# Altium footprint library FSS010.PcbLib: 3 footprints
Each footprint in its own frame and in the unit in brackets; x right, y up, seen from the top. Pads: shape width x height; smd on the part's side, far side on the other; paste and mask are expansions set on the pad; w line width, h text height; cw(c..) or ccw(c..) is an arc to the next point about the centre after c.
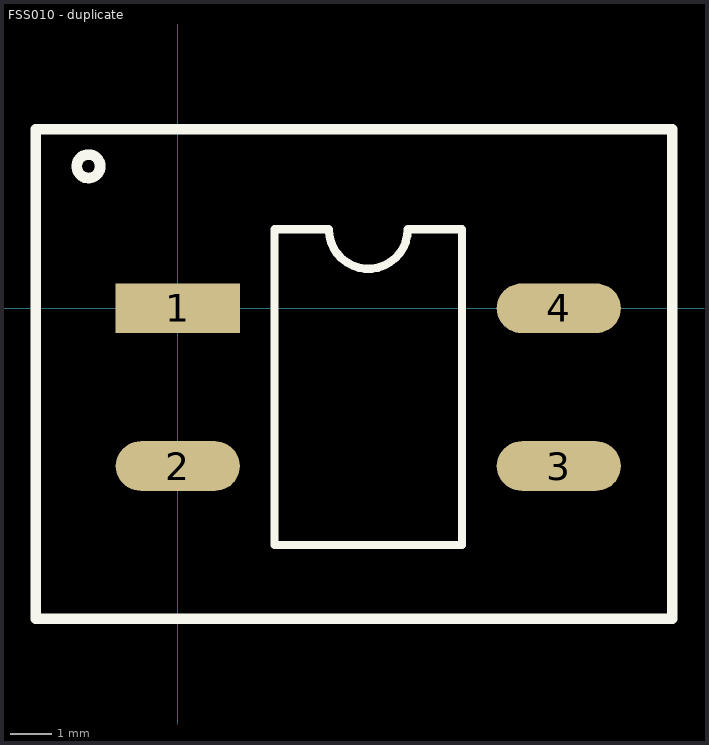
[diagram p0: the footprints below, top view; thin cyan lines are the x and y axes]

## FSS010 [mm]

## FSS010 - duplicate [mm]
pads (4):
  rect 3x1.2 smd: 1(0,0)
  oval 3x1.2 smd: 2(0,-3.81) 3(9.2,-3.81) 4(9.2,0)
Top Overlay:
  circle w0.254: c-2.159,3.429 r0.284
  lines w0.2: 2.335,-5.715 2.335,1.905 3.647,1.905 ccw(c4.6,1.905) 5.552,1.905 6.865,1.905 6.865,-5.715 2.335,-5.715
  lines w0.254: -3.429,-7.493 -3.429,4.318 11.938,4.318 11.938,-7.493 -3.429,-7.493

## PCBComponent_1 [mm]